# EAGLE library part PCA9575 (library nest_interface)
16 channel I2C GPIO module.
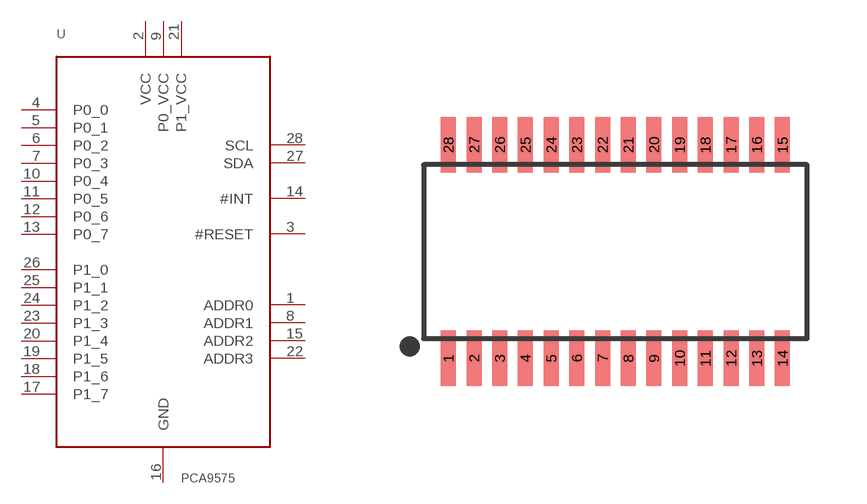
[diagram p1: symbol with the pads of TSSOP28; footprint TSSOP28]

Designator prefix U

## PCA9575 (DIGIKEY: 568-6647-1-ND)  [TSSOP28]
1  ADDR0
2  VCC
3  #RESET
4  P0_0
5  P0_1
6  P0_2
7  P0_3
8  ADDR1
9  P0_VCC
10  P0_4
11  P0_5
12  P0_6
13  P0_7
14  #INT
15  ADDR2
16  GND
17  P1_7
18  P1_6
19  P1_5
20  P1_4
21  P1_VCC
22  ADDR3
23  P1_3
24  P1_2
25  P1_1
26  P1_0
27  SDA
28  SCL

## Footprint TSSOP28 (pad centres in mm)
smd 0.38 x 1.4: 1 -4.225,-2.7; 2 -3.575,-2.7; 3 -2.925,-2.7; 4 -2.275,-2.7; 5 -1.625,-2.7; 6 -0.975,-2.7; 7 -0.325,-2.7; 8 0.325,-2.7; 9 0.975,-2.7; 10 1.625,-2.7; 11 2.275,-2.7; 12 2.925,-2.7; 13 3.575,-2.7; 14 4.225,-2.7; 15 4.225,2.7; 16 3.575,2.7; 17 2.925,2.7; 18 2.275,2.7; 19 1.625,2.7; 20 0.975,2.7; 21 0.325,2.7; 22 -0.325,2.7; 23 -0.975,2.7; 24 -1.625,2.7; 25 -2.275,2.7; 26 -2.925,2.7; 27 -3.575,2.7; 28 -4.225,2.7